# EAGLE library part RFID125-CIVINTEC (library domonetic)
Dual In Line
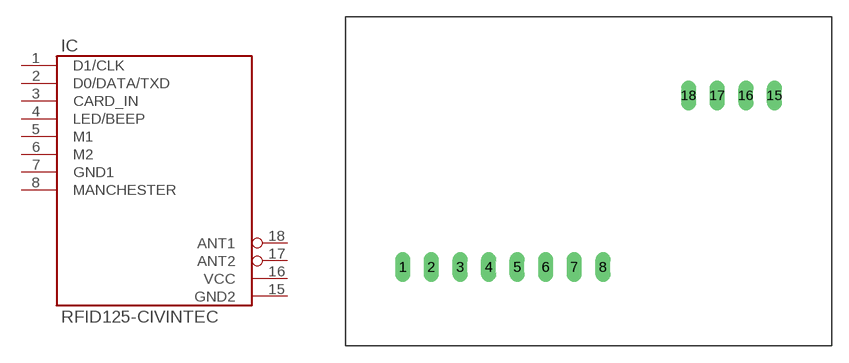
[diagram p3: symbol with the pads of EL100-02(2ST/EPW32); footprint EL100-02(2ST/EPW32)]

Designator prefix IC

## RFID125-CIVINTEC  [EL100-02(2ST/EPW32)]
1  D1/CLK  out
2  D0/DATA/TXD  out
3  CARD_IN  out
4  LED/BEEP  out
5  M1  in
6  M2  in
7  GND1  pwr
8  MANCHESTER  out
15  GND2  pwr
16  VCC  pwr
17  ANT2  pas
18  ANT1  pas

## Footprint EL100-02(2ST/EPW32) (pad centres in mm)
Dual In Line Package 0.6 inch
drill 0.813 long: 1 -16.51,-7.62; 2 -13.97,-7.62; 3 -11.43,-7.62; 4 -8.89,-7.62; 5 -6.35,-7.62; 6 -3.81,-7.62; 7 -1.27,-7.62; 8 1.27,-7.62; 15 16.51,7.62; 16 13.97,7.62; 17 11.43,7.62; 18 8.89,7.62